# Altium footprint library PCB.PcbLib: 13 footprints
Each footprint in its own frame and in the unit in brackets; x right, y up, seen from the top. Pads: shape width x height; smd on the part's side, far side on the other; paste and mask are expansions set on the pad; w line width, h text height; cw(c..) or ccw(c..) is an arc to the next point about the centre after c.
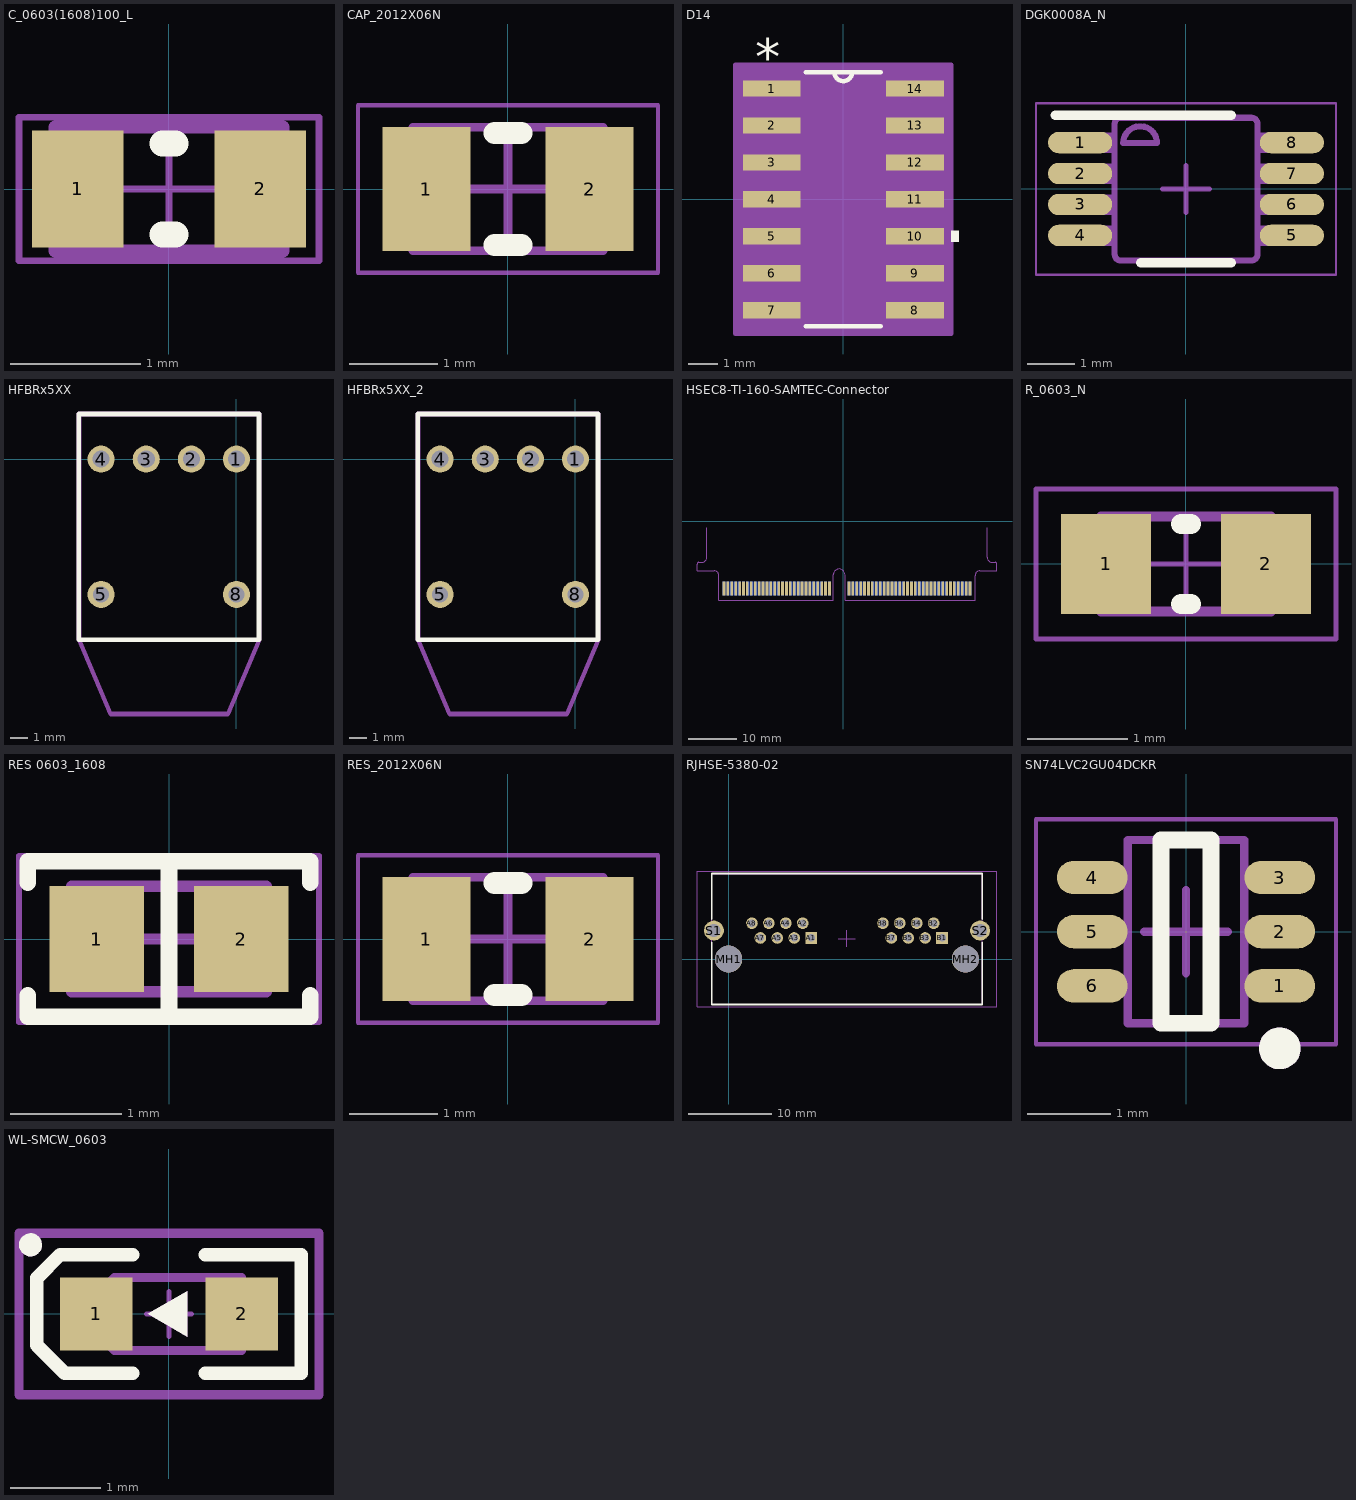
[diagram p0: the footprints below, top view; thin cyan lines are the x and y axes]

## C_0603(1608)100_L [mm] "Chip Capacitor, Body 1.6x0.8mm, Height 1.0mm, IPC High Density"
height 1
pads (2):
  rect 0.7x0.9 smd: 1(-0.7,0) 2(0.7,0)
Top Overlay:
  lines w0.2: -0.05,-0.35 0.05,-0.35 ; -0.05,0.35 0.05,0.35
Mechanical 5:
  lines w0.1: -0.875,-0.475 0.875,-0.475 0.875,0.475 -0.875,0.475 -0.875,-0.475
  text ".Designator" at -2.54,-0.508 h0.5
Mechanical 15:
  lines w0.05: -0.475,0 0.475,0 ; 0,-0.475 0,0.475 ; -1.15,-0.55 1.15,-0.55 1.15,0.55 -1.15,0.55 -1.15,-0.55
3D body "User Library-CapCeramic_Kemet_0603_1608.STEP": height 0.8, standoff 0, extent -0.8,-0.4 0.8,0.4

## CAP_2012X06N [mm] "Chip Resistor, 2-Leads, Body 2,00x1,25mm, IPC Medium Density"
height 0.6
pads (2):
  rect 1x1.4 smd: 1(-0.925,0) 2(0.925,0)
Top Overlay:
  lines w0.254: -0.152,-0.635 0.152,-0.635 ; -0.152,0.635 0.152,0.635
Mechanical 5:
  lines w0.1: -1.075,-0.7 1.075,-0.7 1.075,0.7 -1.075,0.7 -1.075,-0.7
  text ".Designator" at -2.794,-0.508 h0.5
Mechanical 15:
  lines w0.05: -1.7,-0.95 -1.7,0.95 1.7,0.95 1.7,-0.95 -1.7,-0.95
  lines w0.1: -0.5,0 0.5,0 ; 0,-0.5 0,0.5
3D body "User Library-CAP0805-1.STEP": height 1.25, standoff 0, extent -1,-0.625 1,0.625

## D14 [mil]
pads (14):
  rect 78x22 smd paste-39 mask-39: 1(-97,150) 2(-97,100) 3(-97,50) 4(-97,0) 5(-97,-50) 6(-97,-100) 7(-97,-150) 8(97,-150) 9(97,-100) 10(97,-50) 11(97,0) 12(97,50) 13(97,100) 14(97,150)
Top Overlay:
  region: 146,-42.5 156,-42.5 156,-57.5 146,-57.5
  lines w6: -50.89,-172 50.89,-172 ; -50.89,172 50.89,172 ; -12,172 ccw(c0,172) 12,172
  text "*" at -119.5,167 h50
Bottom 3D Body:
  lines w0: -12,172 ccw(c0,172) 12,172
  lines w1: -122,-160 -122,-140 -78.5,-140 -78.5,-160 -122,-160 ; -122,-110 -122,-90 -78.5,-90 -78.5,-110 -122,-110 ; -122,-60 -122,-40 -78.5,-40 -78.5,-60 -122,-60 ; -122,-10 -122,10 -78.5,10 -78.5,-10 -122,-10 ; -122,40 -122,60 -78.5,60 -78.5,40 -122,40 ; -122,90 -122,110 -78.5,110 -78.5,90 -122,90 ; -122,140 -122,160 -78.5,160 -78.5,140 -122,140 ; -78.5,-172 78.5,-172 78.5,172 -78.5,172 -78.5,-172 ; 78.5,-160 78.5,-140 122,-140 122,-160 78.5,-160 ; 78.5,-110 78.5,-90 122,-90 122,-110 78.5,-110 ; 78.5,-60 78.5,-40 122,-40 122,-60 78.5,-60 ; 78.5,-10 78.5,10 122,10 122,-10 78.5,-10 ; 78.5,40 78.5,60 122,60 122,40 78.5,40 ; 78.5,90 78.5,110 122,110 122,90 78.5,90 ; 78.5,140 78.5,160 122,160 122,140 78.5,140
  text "*" at -119.5,167 h50
Mechanical 15:
  region: 146,-182 -146,-182 -146,182 146,182
  lines w6: -146,-182 -146,182 146,182 146,-182 -146,-182
3D body "D14.step": height 69.09, standoff 0, extent -122.01,-172.01 122.01,172.01

## DGK0008A_N [mm]
pads (8):
  oval 1.35x0.45 smd paste+0 mask+0: 1(-2.225,0.975) 2(-2.225,0.325) 3(-2.225,-0.325) 4(-2.225,-0.975) 5(2.225,-0.975) 6(2.225,-0.325) 7(2.225,0.325) 8(2.225,0.975)
Top Overlay:
  lines w0.2: -2.75,1.55 0.95,1.55 ; -0.95,-1.55 0.95,-1.55
Bottom 3D Body:
  lines w0.127: -2.45,-1.131 -2.21,-1.131 -2.091,-1.131 -2.087,-1.131 -1.784,-1.131 -1.498,-1.131 -1.498,-0.826 -1.784,-0.826 -2.087,-0.826 -2.091,-0.826 -2.21,-0.826 -2.45,-0.826 -2.45,-1.131 ; -2.45,-0.48 -2.21,-0.48 -2.091,-0.48 -2.087,-0.48 -1.784,-0.48 -1.498,-0.48 -1.498,-0.175 -1.784,-0.175 -2.087,-0.175 -2.091,-0.175 -2.21,-0.175 -2.45,-0.175 -2.45,-0.48 ; -2.45,0.17 -2.21,0.17 -2.091,0.17 -2.087,0.17 -1.784,0.17 -1.498,0.17 -1.498,0.475 -1.784,0.475 -2.087,0.475 -2.091,0.475 -2.21,0.475 -2.45,0.475 -2.45,0.17 ; -2.45,0.82 -2.21,0.82 -2.091,0.82 -2.087,0.82 -1.784,0.82 -1.498,0.82 -1.498,1.125 -1.784,1.125 -2.087,1.125 -2.091,1.125 -2.21,1.125 -2.45,1.125 -2.45,0.82 ; -1.497,-1.377 ccw(c-1.37,-1.374) -1.373,-1.501 -1.371,-1.501 1.373,-1.501 1.375,-1.501 ccw(c1.373,-1.374) 1.5,-1.377 1.5,-1.374 1.5,1.369 1.5,1.372 ccw(c1.373,1.369) 1.375,1.496 1.373,1.496 -1.371,1.496 -1.373,1.496 ccw(c-1.37,1.369) -1.497,1.372 -1.498,1.369 -1.498,-1.374 -1.497,-1.377 ; -1.32,0.962 cw(c-0.964,0.962) -0.609,0.962 -1.32,0.962 ; 1.5,-1.131 1.5,-0.826 1.786,-0.826 2.089,-0.826 2.093,-0.826 2.213,-0.826 2.452,-0.826 2.452,-1.131 2.213,-1.131 2.093,-1.131 2.089,-1.131 1.786,-1.131 1.5,-1.131 ; 1.5,-0.48 1.5,-0.175 1.786,-0.175 2.089,-0.175 2.093,-0.175 2.213,-0.175 2.452,-0.175 2.452,-0.48 2.213,-0.48 2.093,-0.48 2.089,-0.48 1.786,-0.48 1.5,-0.48 ; 1.5,0.17 1.5,0.475 1.786,0.475 2.089,0.475 2.093,0.475 2.213,0.475 2.452,0.475 2.452,0.17 2.213,0.17 2.093,0.17 2.089,0.17 1.786,0.17 1.5,0.17 ; 1.5,0.82 1.5,1.125 1.786,1.125 2.089,1.125 2.093,1.125 2.213,1.125 2.452,1.125 2.452,0.82 2.213,0.82 2.093,0.82 2.089,0.82 1.786,0.82 1.5,0.82
Mechanical 15:
  lines w0.05: -3.15,-1.8 3.15,-1.8 3.15,1.8 -3.15,1.8 -3.15,-1.8
  lines w0.1: -0.5,0 0.5,0 ; 0,-0.5 0,0.5

## HFBRx5XX [mil]
pads (6):
  round 60 hole 38: 1(0,0) 2(-100,0) 3(-200,0) 4(-300,0)
  round 60 hole 35: 5(-300,-300) 8(0,-300)
Top Overlay:
  lines w10: -350,-400 -350,100 50,100 50,-400 -350,-400
Mechanical 5:
  lines w10: -349,-400 -349,100 51,100 51,-400 -19,-565 -279,-565 -349,-400
  text ".Designator" at -352,-201 h40
3D body "Avago HFBR-0500ETZ Series.stp": height 343.94, standoff -100.16, extent -349.96,-610 129.96,130.12

## HFBRx5XX_2 [mil]
pads (6):
  round 60 hole 38: 1(0,0) 2(-100,0) 3(-200,0) 4(-300,0)
  round 60 hole 35: 5(-300,-300) 8(0,-300)
Top Overlay:
  lines w10: -350,-400 -350,100 50,100 50,-400 -350,-400
Top Assembly:
  lines w10: -349,-400 -349,100 51,100 51,-400 -19,-565 -279,-565 -349,-400
  text ".Designator" at -352,-201 h40
3D body "Avago HFBR-0500ETZ Series.stp": height 343.94, standoff -100.16, extent -349.96,-610 129.96,130.12

## HSEC8-TI-160-SAMTEC-Connector [mm]
pads (120):
  rect 0.55x2.8 smd mask+0.05: 1(-24.4,-13.8) 3(-23.6,-13.8) 5(-22.8,-13.8) 7(-22,-13.8) 9(-21.2,-13.8) 11(-20.4,-13.8) 13(-19.6,-13.8) 15(-18.8,-13.8) 17(-18,-13.8) 19(-17.2,-13.8) 21(-16.4,-13.8) 23(-15.6,-13.8) 25(-14.8,-13.8) 27(-14,-13.8) 29(-13.2,-13.8) 31(-12.4,-13.8) 33(-11.6,-13.8) 35(-10.8,-13.8) 37(-10,-13.8) 39(-9.2,-13.8) 41(-8.4,-13.8) 43(-7.6,-13.8) 45(-6.8,-13.8) 47(-6,-13.8) 49(-5.2,-13.8) 51(-4.4,-13.8) 53(-3.6,-13.8) 55(-2.8,-13.8) 57(1.2,-13.8) 59(2,-13.8) 61(2.8,-13.8) 63(3.6,-13.8) 65(4.4,-13.8) 67(5.2,-13.8) 69(6,-13.8) 71(6.8,-13.8) 73(7.6,-13.8) 75(8.4,-13.8) 77(9.2,-13.8) 79(10,-13.8) 81(10.8,-13.8) 83(11.6,-13.8) 85(12.4,-13.8) 87(13.2,-13.8) 89(14,-13.8) 91(14.8,-13.8) 93(15.6,-13.8) 95(16.4,-13.8) 97(17.2,-13.8) 99(18,-13.8) 101(18.8,-13.8) 103(19.6,-13.8) 105(20.4,-13.8) 107(21.2,-13.8) 109(22,-13.8) 111(22.8,-13.8) 113(23.6,-13.8) 115(24.4,-13.8) 117(25.2,-13.8) 119(26,-13.8)
  rect 0.55x2.8 smd far side mask+0.05: 2(-24.4,-13.8) 4(-23.6,-13.8) 6(-22.8,-13.8) 8(-22,-13.8) 10(-21.2,-13.8) 12(-20.4,-13.8) 14(-19.6,-13.8) 16(-18.8,-13.8) 18(-18,-13.8) 20(-17.2,-13.8) 22(-16.4,-13.8) 24(-15.6,-13.8) 26(-14.8,-13.8) 28(-14,-13.8) 30(-13.2,-13.8) 32(-12.4,-13.8) 34(-11.6,-13.8) 36(-10.8,-13.8) 38(-10,-13.8) 40(-9.2,-13.8) 42(-8.4,-13.8) 44(-7.6,-13.8) 46(-6.8,-13.8) 48(-6,-13.8) 50(-5.2,-13.8) 52(-4.4,-13.8) 54(-3.6,-13.8) 56(-2.8,-13.8) 58(1.2,-13.8) 60(2,-13.8) 62(2.8,-13.8) 64(3.6,-13.8) 66(4.4,-13.8) 68(5.2,-13.8) 70(6,-13.8) 72(6.8,-13.8) 74(7.6,-13.8) 76(8.4,-13.8) 78(9.2,-13.8) 80(10,-13.8) 82(10.8,-13.8) 84(11.6,-13.8) 86(12.4,-13.8) 88(13.2,-13.8) 90(14,-13.8) 92(14.8,-13.8) 94(15.6,-13.8) 96(16.4,-13.8) 98(17.2,-13.8) 100(18,-13.8) 102(18.8,-13.8) 104(19.6,-13.8) 106(20.4,-13.8) 108(21.2,-13.8) 110(22,-13.8) 112(22.8,-13.8) 114(23.6,-13.8) 116(24.4,-13.8) 118(25.2,-13.8) 120(26,-13.8)
Mechanical 1:
  lines w0.05: -27.925,-1.36 -27.925,-7.42 cw(c-28.925,-7.42) -28.925,-8.42 -29.525,-8.42 ccw(c-29.525,-8.82) -29.925,-8.82 -29.925,-10.2 -26.425,-10.2 cw(c-26.425,-11.2) -25.425,-11.2 -25.425,-15.421 -25.425,-16.2 -2,-16.2 -2,-15.421 -2,-11 cw(c-0.8,-11) 0.4,-11 0.4,-15.421 0.4,-16.2 27.025,-16.2 27.025,-15.421 27.025,-11.2 cw(c28.025,-11.2) 28.025,-10.2 31.525,-10.2 31.525,-8.82 ccw(c31.125,-8.82) 31.125,-8.42 30.525,-8.42 cw(c30.525,-7.42) 29.525,-7.42 29.525,-1.36
Mechanical 16:
  lines w0.025: -27.925,-1.36 -27.925,-7.42 cw(c-28.925,-7.42) -28.925,-8.42 -29.525,-8.42 ccw(c-29.525,-8.82) -29.925,-8.82 -29.925,-10.2 -26.425,-10.2 cw(c-26.425,-11.2) -25.425,-11.2 -25.425,-15.421 -25.425,-16.2 -2,-16.2 -2,-15.421 -2,-11 cw(c-0.8,-11) 0.4,-11 0.4,-15.421 0.4,-16.2 27.025,-16.2 27.025,-15.421 27.025,-11.2 cw(c28.025,-11.2) 28.025,-10.2 31.525,-10.2 31.525,-8.82 ccw(c31.125,-8.82) 31.125,-8.42 30.525,-8.42 cw(c30.525,-7.42) 29.525,-7.42 29.525,-1.36

## R_0603_N [mm] "SMD Resistor, Body 1.6x0.8mm, IPC Medium Density"
height 0.6
pads (2):
  rect 0.9x1 smd: 1(-0.8,0) 2(0.8,0)
Top Overlay:
  lines w0.2: -0.05,-0.4 0.05,-0.4 ; -0.05,0.4 0.05,0.4
Mechanical 5:
  lines w0.1: -0.85,-0.475 0.85,-0.475 0.85,0.475 -0.85,0.475 -0.85,-0.475
  text ".Designator" at -2.413,-0.508 h0.5
Mechanical 15:
  lines w0.05: -0.475,0 0.475,0 ; 0,-0.475 0,0.475 ; -1.5,-0.75 -1.5,0.75 1.5,0.75 1.5,-0.75 -1.5,-0.75
3D body "0603-Rchip.step": height 0.44, standoff -0.01, extent -0.8,-0.4 0.8,0.4

## RES 0603_1608 [mm] "Chip Resistor, 2-Leads, Body 1.60x0.80mm, IPC Medium Density"
height 0.45
pads (2):
  rect 0.85x0.95 smd: 1(-0.65,0) 2(0.65,0)
Top Overlay:
  lines w0.15: -1.27,-0.508 -1.27,-0.7 1.27,-0.7 1.27,-0.508 ; -1.27,0.508 -1.27,0.7 1.27,0.7 1.27,0.508 ; 0,-0.7 0,0.7
Top Assembly:
  lines w0.1: -0.875,-0.475 0.875,-0.475 0.875,0.475 -0.875,0.475 -0.875,-0.475
Top Courtyard:
  lines w0.05: -1.35,-0.75 1.35,-0.75 1.35,0.75 -1.35,0.75 -1.35,-0.75
Top Designator:
  text ".Designator" at 1.35,0 h1
Top Component Center:
  lines w0.1: -0.5,0 0.5,0 ; 0,-0.5 0,0.5
Top Value:
  text ".Comment" at 1.35,-0.75 h1
3D body "0603 resistor.STEP": height 0.45, standoff 0, extent -0.8,-0.4 0.8,0.4

## RES_2012X06N [mm] "Chip Resistor, 2-Leads, Body 2,00x1,25mm, IPC Medium Density"
height 0.6
pads (2):
  rect 1x1.4 smd: 1(-0.925,0) 2(0.925,0)
Top Overlay:
  lines w0.254: -0.152,-0.635 0.152,-0.635 ; -0.152,0.635 0.152,0.635
Mechanical 5:
  lines w0.1: -1.075,-0.7 1.075,-0.7 1.075,0.7 -1.075,0.7 -1.075,-0.7
  text ".Designator" at -2.794,-0.508 h0.5
Mechanical 15:
  lines w0.05: -1.7,-0.95 -1.7,0.95 1.7,0.95 1.7,-0.95 -1.7,-0.95
  lines w0.1: -0.5,0 0.5,0 ; 0,-0.5 0,0.5
3D body "User Library-RESC2012X05N.STEP": height 0.45, standoff 0, extent -1,-0.629 1,0.621

## RJHSE-5380-02 [mm] "Modular Jack Horizontal Shielded Dual Port 8P8C Tab Up"
height 13.75
pads (20):
  rect 1.4x1.4 hole 0.9: A1(9.906,2.54) B1(25.654,2.54)
  round 1.4 hole 0.9: A2(8.89,4.318) A3(7.874,2.54) A4(6.858,4.318) A5(5.842,2.54) A6(4.826,4.318) A7(3.81,2.54) A8(2.794,4.318) B2(24.638,4.318) B3(23.622,2.54) B4(22.606,4.318) B5(21.59,2.54) B6(20.574,4.318) B7(19.558,2.54) B8(18.542,4.318)
  round 3.25 hole 3.25 unplated: MH1(0,0) MH2(28.448,0)
  round 2.4 hole 1.6: S1(-1.778,3.429) S2(30.226,3.429)
Top Overlay:
  lines w0.203: -2.032,2.032 -2.032,-5.461 30.48,-5.461 30.48,2.032 ; -2.032,4.826 -2.032,10.287 30.48,10.287 30.48,4.826
Top Assembly:
  lines w0.1: -2.032,-5.461 -2.032,10.287 30.48,10.287 30.48,-5.461 -2.032,-5.461
Top Courtyard:
  lines w0.05: -3.81,-5.715 32.258,-5.715 32.258,10.541 -3.81,10.541 -3.81,-5.715
Top Designator:
  text ".Designator" at 9.2,6.6 h1.02
Top Component Center:
  lines w0.15: 13.196,2.455 15.196,2.455 ; 14.196,1.455 14.196,3.455
3D body "RJHSE-5380-02-REVT1.step": height 15.06, standoff -3.78, extent -3.503,-5.41 31.951,10.287

## SN74LVC2GU04DCKR [mm] "TSOP, 6-Leads, Body 2,00x1,25mm, Pitch 0,65mm, IPC Medium Density"
height 1.1
pads (6):
  oval 0.85x0.4 smd: 1(1.125,-0.65) 2(1.125,0) 3(1.125,0.65) 4(-1.125,0.65) 5(-1.125,0) 6(-1.125,-0.65)
Top Overlay:
  circle w0.25: c1.125,-1.4 r0.125
  lines w0.2: -0.3,-1.1 -0.3,1.1 0.3,1.1 0.3,-1.1 -0.3,-1.1
Mechanical 3:
  lines w0.1: -0.7,-1.1 -0.7,1.1 0.7,1.1 0.7,-1.1 -0.7,-1.1
Mechanical 5:
  circle w0.25: c1.125,-1.4 r0.125
  lines w0.1: -0.7,-1.1 0.7,-1.1 0.7,1.1 -0.7,1.1 -0.7,-1.1
  text ".Designator" at -0.689,1.549 h1
Mechanical 15:
  lines w0.05: -1.8,-1.35 -1.8,1.35 1.8,1.35 1.8,-1.35 -1.8,-1.35
  lines w0.1: -0.5,0 0.5,0 ; 0,-0.5 0,0.5
3D body: height 1.1, standoff 0.1, extent -0.7,-1.1 0.7,1.1

## WL-SMCW_0603 [mm] "SMD Mono-color Chip LED, body 1.6x0.8mm"
height 0.7
pads (2):
  rect 0.8x0.8 smd: 1(-0.8,0) 2(0.8,0)
Top Overlay:
  region: -0.233,0 0.2,-0.25 0.2,0.25
  lines w0.127: -1.467,0.79 ccw(c-1.524,0.762) -1.46,0.762
  lines w0.15: -0.4,-0.654 -1.146,-0.654 -1.454,-0.346 -1.454,0.396 -1.196,0.654 -0.4,0.654 ; 0.4,-0.654 1.454,-0.654 1.454,0.654 0.4,0.654
Top Assembly:
  region: -0.233,0 0.2,-0.25 0.2,0.25
  lines w0.1: -0.8,-0.2 -0.6,-0.4 0.8,-0.4 0.8,0.4 -0.6,0.4 -0.8,0.2 -0.8,-0.2
  lines w0.127: -1.467,0.79 ccw(c-1.524,0.762) -1.46,0.762
Top Courtyard:
  lines w0.1: -1.651,-0.889 -1.651,0.889 1.651,0.889 1.651,-0.889 -1.651,-0.889
Top Designator:
  text ".Designator" at 1.016,-0.32 h1
Top Component Center:
  lines w0.05: -0.25,0 0.25,0 ; 0,-0.25 0,0.25
3D body "WL-SMCW_0603_LED.stp": height 0.7, standoff 0, extent -0.8,-0.4 0.8,0.4